# Altium schematic symbol library Diode_LED.SchLib: 3 symbols
Pins are listed as number, name and electrical type; pins without a type are passive.

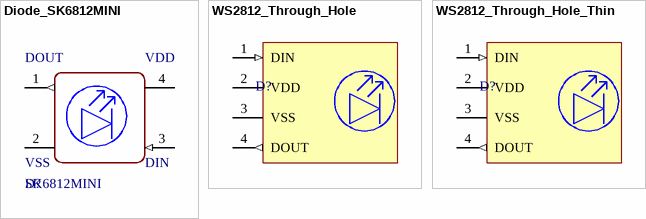
[diagram p0: symbols Diode_SK6812MINI to WS2812_Through_Hole_Thin]

## Diode_SK6812MINI
designator D?  Part Number: SK6812MINI
SMD LED 3535; Manufacturer: Adafruit; helpURL: https://upverter.com/upn/revision/c89e73b2d25df682/; ComponentLink2Description: Datasheet; Temperature: -40°C to +85°C; Package: SMT_LED_5MM0; Supplier 2: Mouser; Supplier 1: Digi-Key; ComponentLink1URL: https://upverter.com/upn/revision/c89e73b2d25df682/; ComponentLink1Description: Upverter; ComponentLink2URL: https://cdn-shop.adafruit.com/product-files/1138/SK6812+LED+datasheet+.pdf; RoHS: TRUE; Temperature Range High: +85°C; Temperature Range Low: -40°C; Lead Free: yes; Ipc Land Pattern Name: SOIC320P540X160-4
footprint SK6812MINI (SMD LED 3535)
pins: 1 DOUT (out), 2 VSS (power), 3 DIN (in), 4 VDD (power)

## WS2812_Through_Hole
designator D?
WS2812 Through Hole LED
footprint WS2812_Through_Hole (THD, 4-Leads, Dia 5.9mm, Pitch 1.27mm)
pins: 1 DIN (in), 2 VDD (power), 3 VSS (power), 4 DOUT (out)

## WS2812_Through_Hole_Thin
designator D?
WS2812 Through Hole LED
footprint WS2812_Through_Hole_smaller (THD, 4-Leads, Dia 5.9mm, Pitch 1.27mm)
pins: 1 DIN (in), 2 VDD (power), 3 VSS (power), 4 DOUT (out)